# Altium schematic symbol library MQ4_GAS_SENS.SchLib: 1 symbol
Pins are listed as number, name and electrical type; pins without a type are passive.

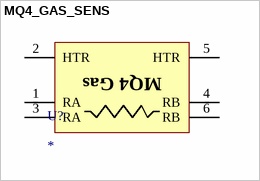
[diagram p0: symbol MQ4_GAS_SENS]

## MQ4_GAS_SENS
designator U?
pins: 1 RA, 2 HTR, 3 RA, 4 RB, 5 HTR, 6 RB
text: MQ4 Gas